# Altium schematic symbol library SeniorProjectLibrary.SchLib: 12 symbols
Pins are listed as number, name and electrical type; pins without a type are passive.

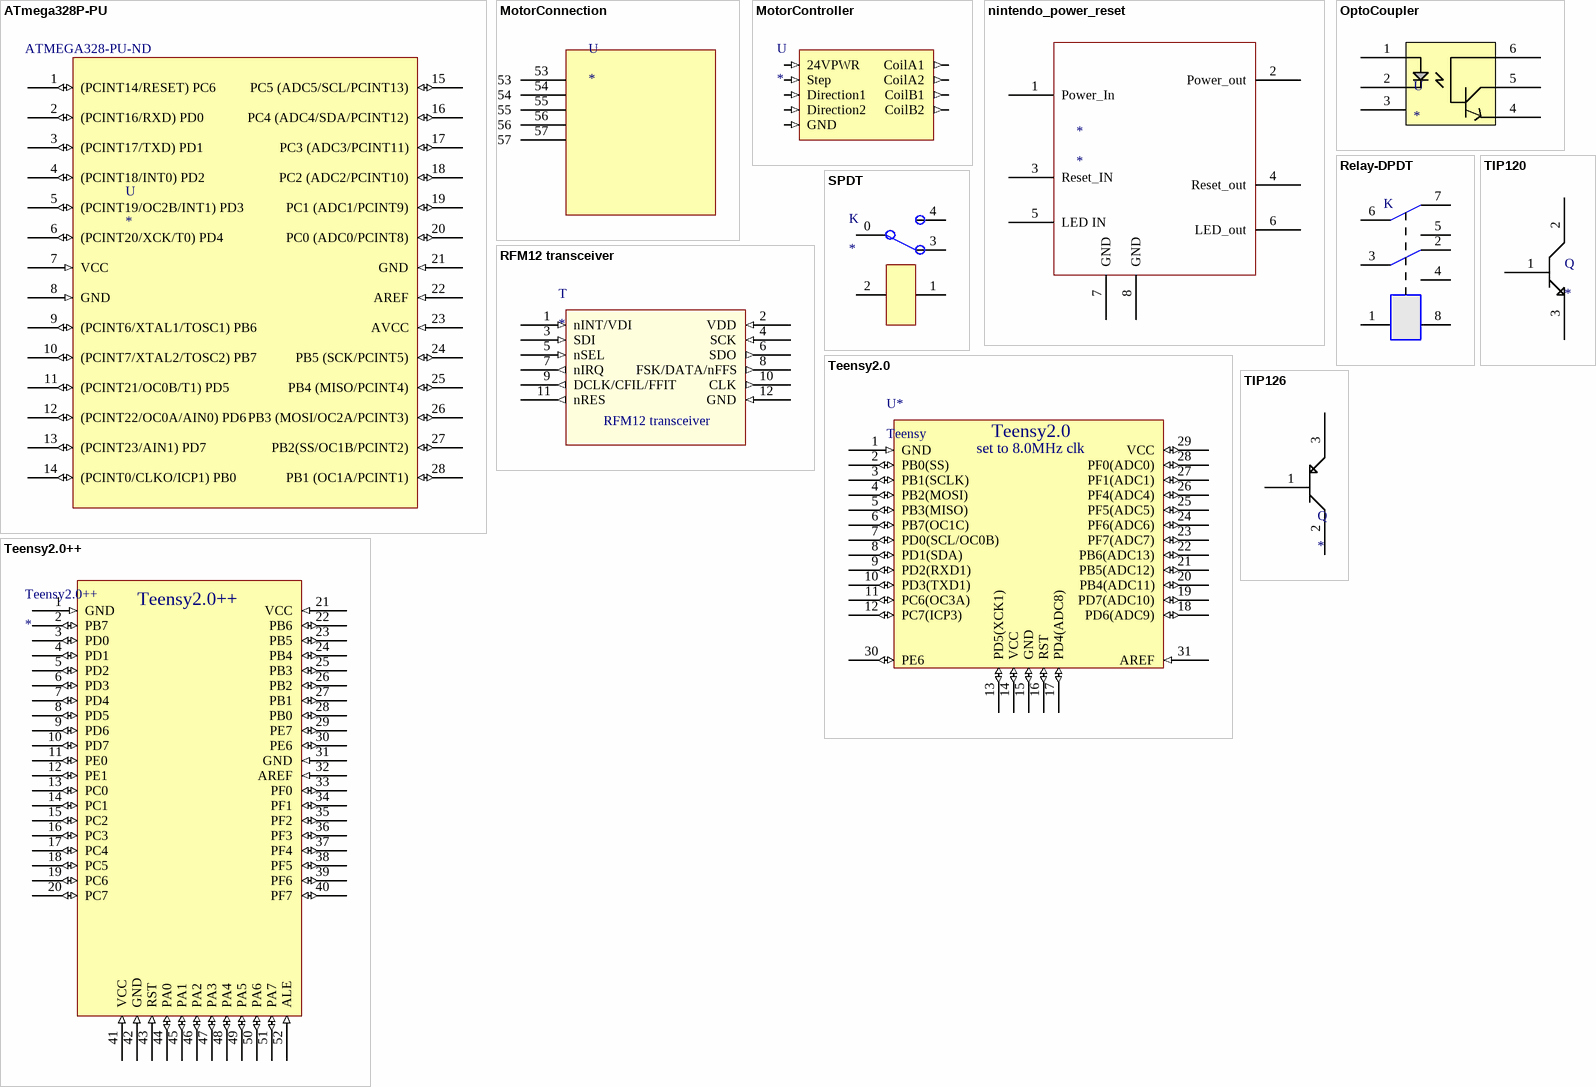
[diagram p0: symbols ATmega328P-PU to TIP126]

## ATmega328P-PU
designator U  Supplier Part Number 1: ATMEGA328-PU-ND
Vendor: Digi-Key; Supplier 1: Digi-Key; Price: 4.00
footprint AVR328P-PU
pins: 1 (PCINT14/RESET) PC6 (io), 2 (PCINT16/RXD) PD0 (io), 3 (PCINT17/TXD) PD1 (io), 4 (PCINT18/INT0) PD2 (io), 5 (PCINT19/OC2B/INT1) PD3 (io), 6 (PCINT20/XCK/T0) PD4 (io), 7 VCC (in), 8 GND (in), 9 (PCINT6/XTAL1/TOSC1) PB6 (io), 10 (PCINT7/XTAL2/TOSC2) PB7 (io), 11 (PCINT21/OC0B/T1) PD5 (io), 12 (PCINT22/OC0A/AIN0) PD6 (io), 13 (PCINT23/AIN1) PD7 (io), 14 (PCINT0/CLKO/ICP1) PB0 (io), 15 PC5 (ADC5/SCL/PCINT13) (io), 16 PC4 (ADC4/SDA/PCINT12) (io), 17 PC3 (ADC3/PCINT11) (io), 18 PC2 (ADC2/PCINT10) (io), 19 PC1 (ADC1/PCINT9) (io), 20 PC0 (ADC0/PCINT8) (io), 21 GND (in), 22 AREF (in), 23 AVCC (in), 24 PB5 (SCK/PCINT5) (io), 25 PB4 (MISO/PCINT4) (io), 26 PB3 (MOSI/OC2A/PCINT3) (io), 27 PB2(SS/OC1B/PCINT2) (io), 28 PB1 (OC1A/PCINT1) (io)

## MotorConnection
designator U
Vendor: N/A
pins: 53, 54, 55, 56, 57

## MotorController
designator U
Vendor: N/A
pins: 24VPWR (in), CoilA1 (out), CoilA2 (out), CoilB1 (out), CoilB2 (out), Direction1 (in), Direction2 (in), GND (in), Step (in)

## nintendo_power_reset
designator *
Vendor: All Electronics; Price: 1.0
footprint PCBComponent_1
pins: 1 Power_In, 2 Power_out, 3 Reset_IN, 4 Reset_out, 5 LED IN, 6 LED_out, 7 GND, 8 GND

## OptoCoupler
designator U
Vendor: Taydaelectronics; Price: 0.3
footprint DIP4
footprint Octocoupler
pins: 1 Anode, 2 Cathode, 3, 4 Emitter, 5 Collector, 6 Base

## Relay-DPDT
designator K  (value not drawn)
Relay DPDT_EC2-5NJ_From Allelectronics; Vendor: All Electronics
footprint Relay - DPDT
pins: 1, 2, 3, 4, 5, 6, 7, 8

## RFM12 transceiver
designator T
www.futurlec.com 433 MHZ transceiver; Price: 7.90; Vendor: futurlec
footprint RFM12-transceiver (RFM12 433MHZ transceiver from www.futurlec.com)
pins: 1 nINT/VDI (in), 2 VDD (in) "5.0V", 3 SDI (in) "SPI Data input", 4 SCK (in) "SPI Clock input", 5 nSEL (in) "Chip Select Active Low", 6 SDO (out) "Serial data output with bus hold", 7 nIRQ (out) "Interrupts request output (active low)", 8 FSK/DATA/nFFS (out) "Transmit FSK data input/Received data output (FIFO not used)/FIFO select", 9 DCLK/CFIL/FFIT (out) "Clock output/external filter cap(analog mode)/ fifo interrupts(active high)", 10 CLK (out) "Clock output for external microcontroller", 11 nRES (out) "Reset output (active low)", 12 GND (in) "power Ground"

## SPDT
designator K
Vendor: Taydaelectronics; Price: 0.64
footprint Relay - SPDT (this is the KLT1C6DC5)
pins: 0, 1, 2, 3, 4

## Teensy2.0
designator U*, comment Teensy
The teensy 2.0 from www.PJRC.com, chang clock to 8MHz; Vendor: PJRC; Price: 16.00
footprint Teensy2.0 (Regular Teensy 2.0)
pins: 1 GND (in), 2 PB0(SS) (io) "27", 3 PB1(SCLK) (io) "0", 4 PB2(MOSI) (io) "1", 5 PB3(MISO) (io) "2", 6 PB7(OC1C) (io) "3", 7 PD0(SCL/OC0B) (io) "4", 8 PD1(SDA) (io) "5", 9 PD2(RXD1) (io) "6", 10 PD3(TXD1) (io) "7", 11 PC6(OC3A) (io) "8", 12 PC7(ICP3) (io) "9", 13 PD5(XCK1) (io) "10", 14 VCC (io) "11", 15 GND (io) "12", 16 RST (io) "13", 17 PD4(ADC8) (io) "14", 18 PD6(ADC9) (io) "15", 19 PD7(ADC10) (io) "16", 20 PB4(ADC11) (io) "17", 21 PB5(ADC12) (io) "+5V", 22 PB6(ADC13) (io) "26", 23 PF7(ADC7) (io) "25", 24 PF6(ADC6) (io) "24", 25 PF5(ADC5) (io) "23", 26 PF4(ADC4) (io) "22", 27 PF1(ADC1) (io) "21", 28 PF0(ADC0) (io) "20", 29 VCC (io) "19", 30 PE6 (io) "18", 31 AREF (in) "GND"
text: set to 8.0MHz clk

## Teensy2.0++
designator Teensy2.0++
The teensy 2.0 from www.PJRC.com; Vendor: PJRC; Vendor: Taydaelectronics; Price: 24.0
footprint Teensy2.0++
pins: 1 GND (in), 2 PB7 (io) "27", 3 PD0 (io) "0", 4 PD1 (io) "1", 5 PD2 (io) "2", 6 PD3 (io) "3", 7 PD4 (io) "4", 8 PD5 (io) "5", 9 PD6 (io) "6", 10 PD7 (io) "7", 11 PE0 (io) "8", 12 PE1 (io) "9", 13 PC0 (io) "10", 14 PC1 (io) "11", 15 PC2 (io) "12", 16 PC3 (io) "13", 17 PC4 (io) "14", 18 PC5 (io) "15", 19 PC6 (io) "16", 20 PC7 (io) "17", 21 VCC (in) "+5V", 22 PB6 (io) "26", 23 PB5 (io) "25", 24 PB4 (io) "24", 25 PB3 (io) "23", 26 PB2 (io) "22", 27 PB1 (io) "21", 28 PB0 (io) "20", 29 PE7 (io) "19", 30 PE6 (io) "18", 31 GND (in), 32 AREF (in), 33 PF0 (io) "38", 34 PF1 (io) "39", 35 PF2 (io) "40", 36 PF3 (io) "41", 37 PF4 (io) "42", 38 PF5 (io) "43", 39 PF6 (io) "44", 40 PF7 (io) "45", 41 VCC (in) "+5V", 42 GND (in), 43 RST (in), 44 PA0 (io) "28", 45 PA1 (io) "29", 46 PA2 (io) "30", 47 PA3 (io) "31", 48 PA4 (io) "32", 49 PA5 (io) "33", 50 PA6 (io) "34", 51 PA7 (io) "35", 52 ALE (in)

## TIP120
designator Q
NPN 60V -5A TO-220; Vendor: Taydaelectronics; Price: 0.26
footprint TO-220 (Foot Print for a TO-220)
pins: 1 "Base", 2 "Collector", 3 "Emitter"

## TIP126
designator Q
TIP126 -PNP; Vendor: Taydaelectronics; Price: 0.35
footprint TO-220 (Foot Print for a TO-220)
pins: 1 "Base", 2 "Collector", 3 "Emitter"